# Altium schematic symbol library Robsense_Schlib.SchLib: 34 symbols
Pins are listed as number, name and electrical type; pins without a type are passive.

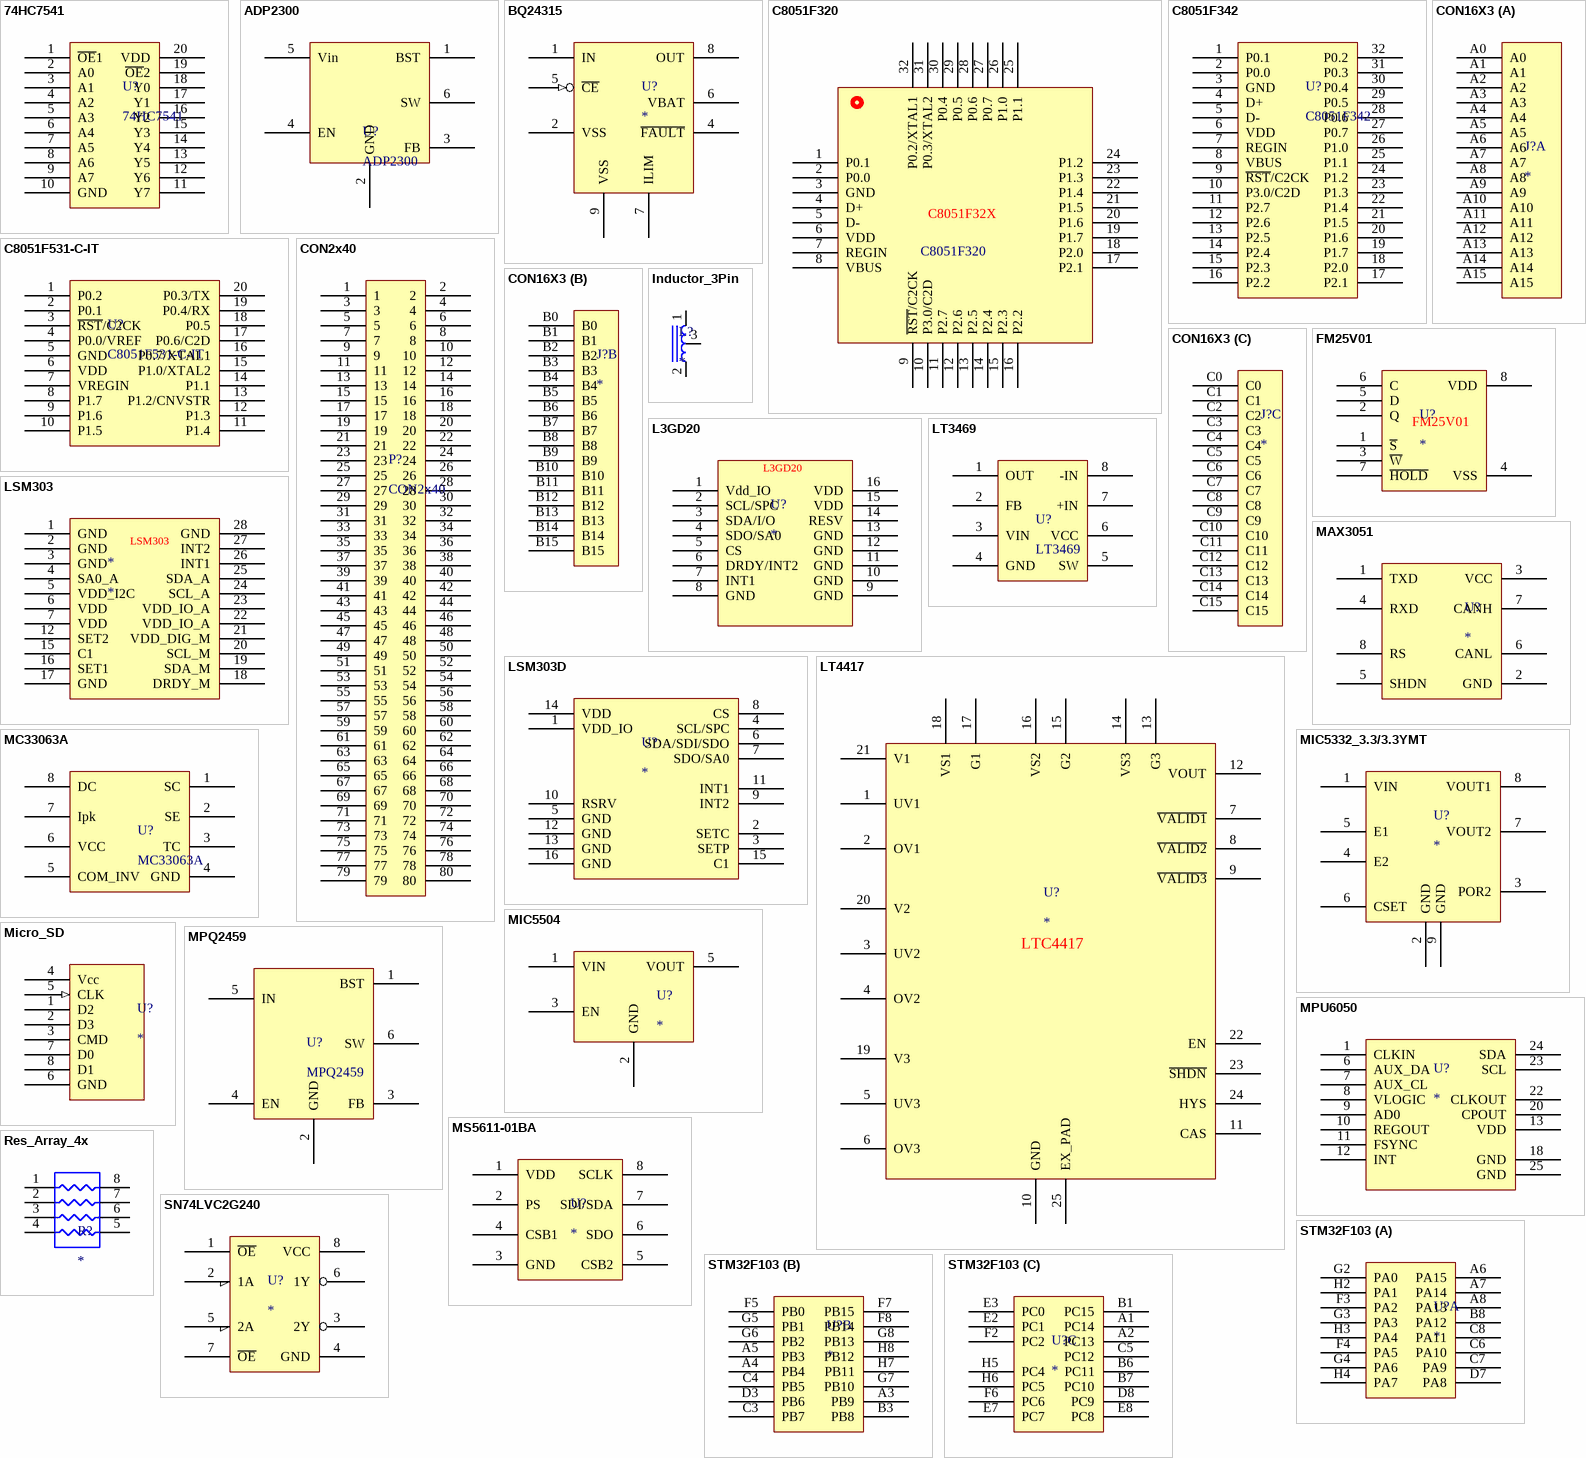
[diagram p0: symbols 74HC7541 to STM32F103]

## 74HC7541
designator U?
footprint TSSOP20_N (Footprint not found)
pins: 1 ~{OE}1, 2 A0, 3 A1, 4 A2, 5 A3, 6 A4, 7 A5, 8 A6, 9 A7, 10 GND, 11 Y7, 12 Y6, 13 Y5, 14 Y4, 15 Y3, 16 Y2, 17 Y1, 18 Y0, 19 ~{OE}2, 20 VDD

## ADP2300
designator U?
footprint TSOT6
pins: 1 BST, 2 GND, 3 FB, 4 EN, 5 Vin, 6 SW

## BQ24315
designator U?
pins: 1 IN, 2 VSS, 4 ~{FAULT}, 5 ~{CE} (in), 6 VBAT, 7 ILIM, 8 OUT, 9 VSS

## C8051F320
designator ?
footprint LQFP32_L (Footprint not found)
footprint LQFP32_M (Footprint not found)
pins: 1 P0.1, 2 P0.0, 3 GND, 4 D+, 5 D-, 6 VDD, 7 REGIN, 8 VBUS, 9 ~{RST}/C2CK, 10 P3.0/C2D, 11 P2.7, 12 P2.6, 13 P2.5, 14 P2.4, 15 P2.3, 16 P2.2, 17 P2.1, 18 P2.0, 19 P1.7, 20 P1.6, 21 P1.5, 22 P1.4, 23 P1.3, 24 P1.2, 25 P1.1, 26 P1.0, 27 P0.7, 28 P0.6, 29 P0.5, 30 P0.4, 31 P0.3/XTAL2, 32 P0.2/XTAL1
text: C8051F32X

## C8051F342
designator U?
footprint LQFP32
pins: 1 P0.1, 2 P0.0, 3 GND, 4 D+, 5 D-, 6 VDD, 7 REGIN, 8 VBUS, 9 ~{RST}/C2CK, 10 P3.0/C2D, 11 P2.7, 12 P2.6, 13 P2.5, 14 P2.4, 15 P2.3, 16 P2.2, 17 P2.1, 18 P2.0, 19 P1.7, 20 P1.6, 21 P1.5, 22 P1.4, 23 P1.3, 24 P1.2, 25 P1.1, 26 P1.0, 27 P0.7, 28 P0.6, 29 P0.5, 30 P0.4, 31 P0.3, 32 P0.2

## C8051F531-C-IT
designator U?
footprint TSSOP20_N (Footprint not found)
pins: 1 P0.2, 2 P0.1, 3 ~{RST}/C2CK, 4 P0.0/VREF, 5 GND, 6 VDD, 7 VREGIN, 8 P1.7, 9 P1.6, 10 P1.5, 11 P1.4, 12 P1.3, 13 P1.2/CNVSTR, 14 P1.1, 15 P1.0/XTAL2, 16 P0.7/XTAL1, 17 P0.6/C2D, 18 P0.5, 19 P0.4/RX, 20 P0.3/TX

## CON2x40
designator P?
footprint Con2x40_1p27
pins: 1, 2, 3, 4, 5, 6, 7, 8, 9, 10, 11, 12, 13, 14, 15, 16, 17, 18, 19, 20, 21, 22, 23, 24, 25, 26, 27, 28, 29, 30, 31, 32, 33, 34, 35, 36, 37, 38, 39, 40, 41, 42, 43, 44, 45, 46, 47, 48, 49, 50, 51, 52, 53, 54, 55, 56, 57, 58, 59, 60, 61, 62, 63, 64, 65, 66, 67, 68, 69, 70, 71, 72, 73, 74, 75, 76, 77, 78, 79, 80

## CON16X3
designator J?
part A pins: A0, A1, A2, A3, A4, A5, A6, A7, A8, A9, A10, A11, A12, A13, A14, A15
part B pins: B0, B1, B2, B3, B4, B5, B6, B7, B8, B9, B10, B11, B12, B13, B14, B15
part C pins: C0, C1, C2, C3, C4, C5, C6, C7, C8, C9, C10, C11, C12, C13, C14, C15

## FM25V01
designator U?
pins: 1 ~{S}, 2 Q, 3 ~{W}, 4 VSS, 5 D, 6 C, 7 ~{HOLD}, 8 VDD

## Inductor_3Pin
designator L?
footprint INDUCTOR_3PIN
pins: 1, 2, 3

## L3GD20
designator U?
pins: 1 Vdd_IO, 2 SCL/SPC, 3 SDA/I/O, 4 SDO/SA0, 5 CS, 6 DRDY/INT2, 7 INT1, 8 GND, 9 GND, 10 GND, 11 GND, 12 GND, 13 GND, 14 RESV, 15 VDD, 16 VDD

## LSM303
designator *
pins: 1 GND, 2 GND, 3 GND, 4 SA0_A, 5 VDD_I2C, 6 VDD, 7 VDD, 12 SET2, 15 C1, 16 SET1, 17 GND, 18 DRDY_M, 19 SDA_M, 20 SCL_M, 21 VDD_DIG_M, 22 VDD_IO_A, 23 VDD_IO_A, 24 SCL_A, 25 SDA_A, 26 INT1, 27 INT2, 28 GND

## LSM303D
designator U?
pins: 1 VDD_IO, 2 SETC, 3 SETP, 4 SCL/SPC, 5 GND, 6 SDA/SDI/SDO, 7 SDO/SA0, 8 CS, 9 INT2, 10 RSRV, 11 INT1, 12 GND, 13 GND, 14 VDD, 15 C1, 16 GND

## LT3469
designator U?
pins: 1 OUT, 2 FB, 3 VIN, 4 GND, 5 SW, 6 VCC, 7 +IN, 8 -IN

## LT4417
designator U?
pins: 1 UV1, 2 OV1, 3 UV2, 4 OV2, 5 UV3, 6 OV3, 7 ~{VALID1}, 8 ~{VALID2}, 9 ~{VALID3}, 10 GND, 11 CAS, 12 VOUT, 13 G3, 14 VS3, 15 G2, 16 VS2, 17 G1, 18 VS1, 19 V3, 20 V2, 21 V1, 22 EN, 23 ~{SHDN}, 24 HYS, 25 EX_PAD
text: LTC4417

## MAX3051
designator U?
pins: 1 TXD, 2 GND, 3 VCC, 4 RXD, 5 SHDN, 6 CANL, 7 CANH, 8 RS

## MC33063A
designator U?
footprint SOIC8 (SOIC, 8-Leads, Body 4.90x3.90mm, Pitch 1.27mm, IPC Medium Density)
pins: 1 SC, 2 SE, 3 TC, 4 GND, 5 COM_INV, 6 VCC, 7 Ipk, 8 DC

## MIC5332_3.3/3.3YMT
designator U?
pins: 1 VIN, 2 GND, 3 POR2, 4 E2, 5 E1, 6 CSET, 7 VOUT2, 8 VOUT1, 9 GND

## MIC5504
designator U?
footprint SOT23-5 (SOT23, 5-Leads, Body 2.90x2.80mm, Pitch 0.95mm, IPC Medium Density)
pins: 1 VIN, 2 GND, 3 EN, 5 VOUT

## Micro_SD
designator U?
Micro_SD
pins: 1 D2, 2 D3, 3 CMD, 4 Vcc, 5 CLK (in), 6 GND, 7 D0, 8 D1

## MPQ2459
designator U?
footprint SOT23-6_M (Footprint not found)
pins: 1 BST, 2 GND, 3 FB, 4 EN, 5 IN, 6 SW

## MPU6050
designator U?
MPU6000
footprint QFN24 (QFN, 24-Leads, Body 4.00x4.00mm, Pitch 0.50mm, Thermal Pad 2.60x2.70mm, IPC Medium Density)
pins: 1 CLKIN, 6 AUX_DA, 7 AUX_CL, 8 VLOGIC, 9 AD0, 10 REGOUT, 11 FSYNC, 12 INT, 13 VDD, 18 GND, 20 CPOUT, 22 CLKOUT, 23 SCL, 24 SDA, 25 GND

## MS5611-01BA
designator U?
MS5611-01BA
footprint QFN127P600-8N
pins: 1 VDD, 2 PS, 3 GND, 4 CSB1, 5 CSB2, 6 SDO, 7 SDI/SDA, 8 SCLK

## Res_Array_4x
designator R?
Res_Array_x4
footprint RES_ARRAY_4X_1 (SOJ, 8-Leads, Body 2.00x1.00mm, Pitch 0.50mm, IPC Low Density)
pins: 1, 2, 3, 4, 5, 6, 7, 8

## SN74LVC2G240
designator U?
pins: 1 ~{OE}, 2 1A, 3 2Y, 4 GND, 5 2A, 6 1Y, 7 ~{OE}, 8 VCC

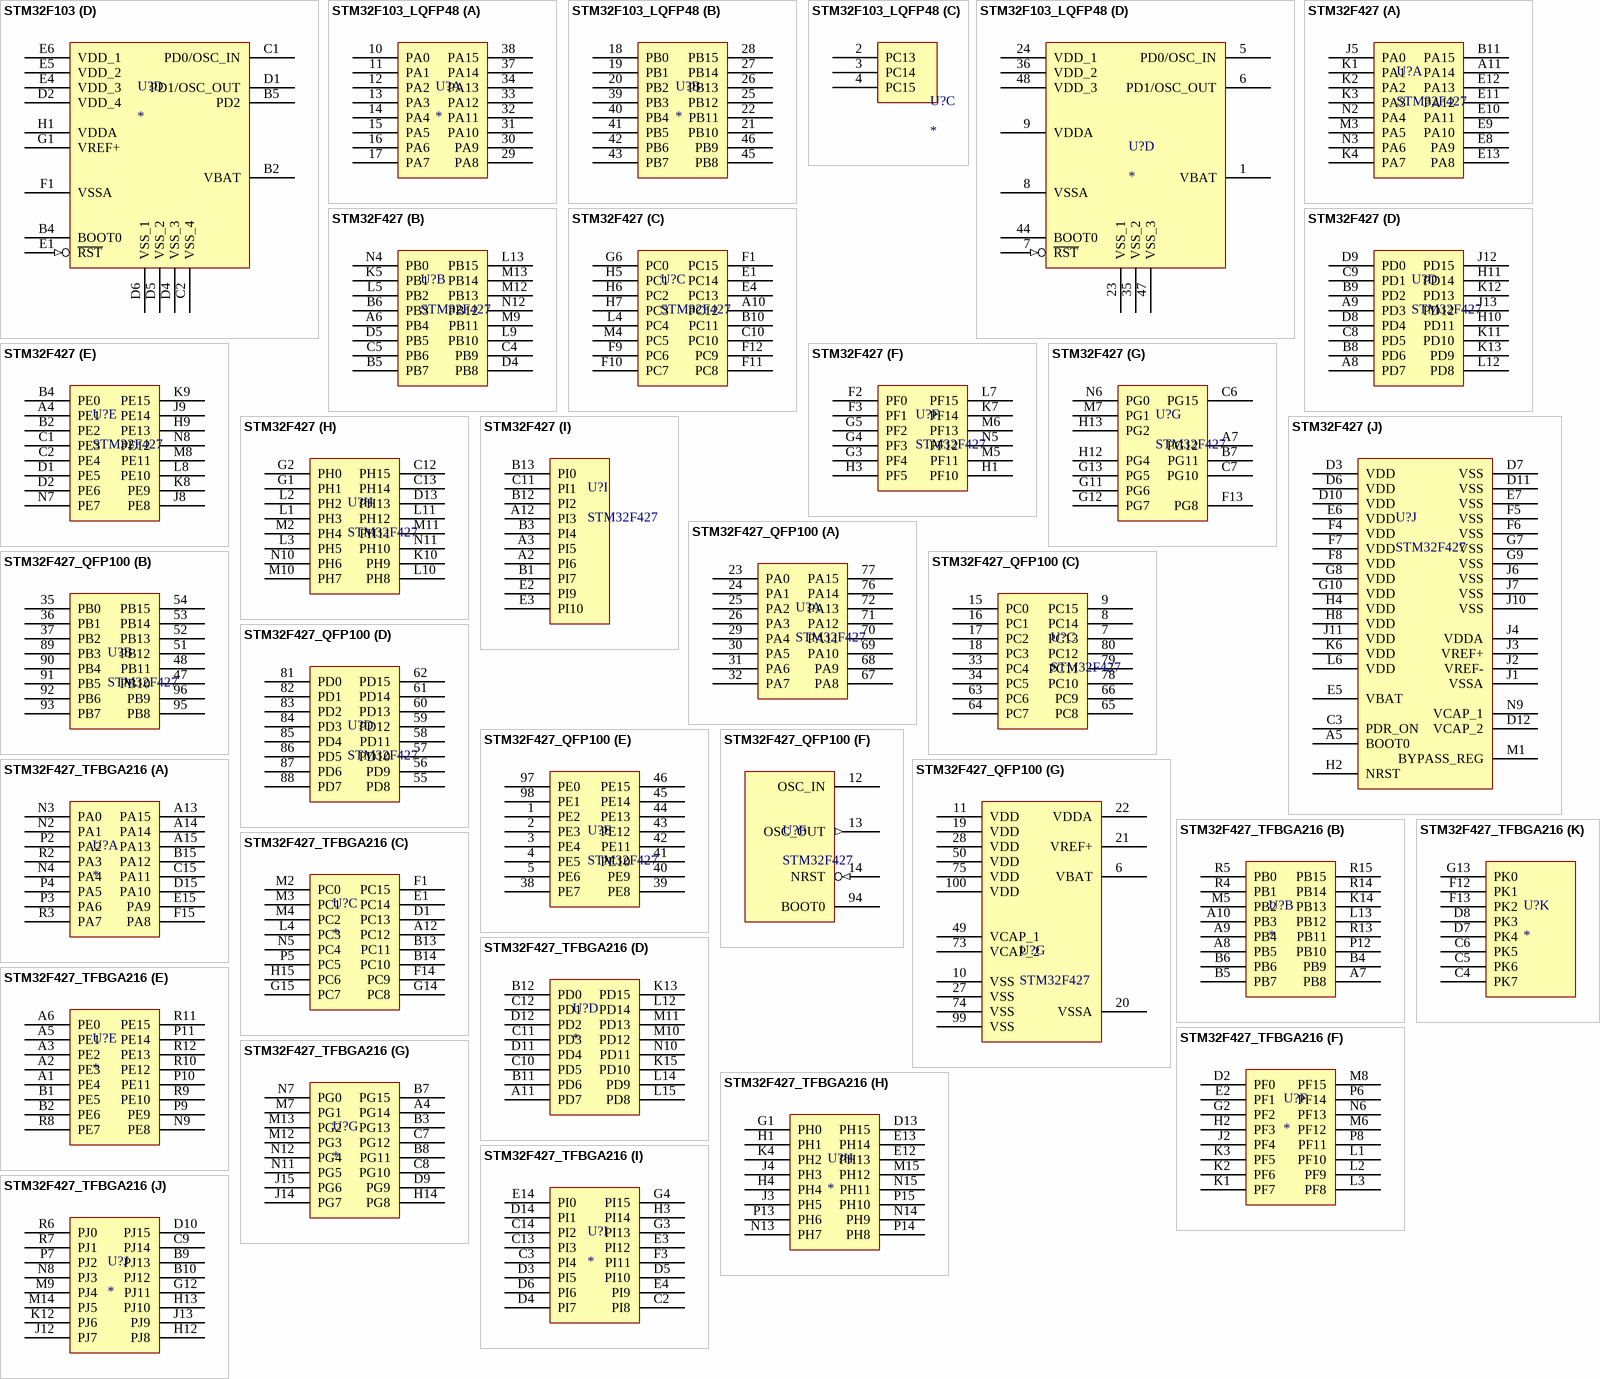
[diagram p1: symbols STM32F103 to STM32F427_TFBGA216]

## STM32F103
designator U?
part A pins: A6 PA15, A7 PA14, A8 PA13, B8 PA12, C6 PA10, C7 PA9, C8 PA11, D7 PA8, F3 PA2, F4 PA5, G2 PA0, G3 PA3, G4 PA6, H2 PA1, H3 PA4, H4 PA7
part B pins: A3 PB9, A4 PB4, A5 PB3, B3 PB8, C3 PB7, C4 PB5, D3 PB6, F5 PB0, F7 PB15, F8 PB14, G5 PB1, G6 PB2, G7 PB10, G8 PB13, H7 PB11, H8 PB12
part C pins: A1 PC14, A2 PC13, B1 PC15, B6 PC11, B7 PC10, C5 PC12, D8 PC9, E2 PC1, E3 PC0, E7 PC7, E8 PC8, F2 PC2, F6 PC6, H5 PC4, H6 PC5
part D pins: B2 VBAT, B4 BOOT0, B5 PD2, C1 PD0/OSC_IN, C2 VSS_4, D1 PD1/OSC_OUT, D2 VDD_4, D4 VSS_3, D5 VSS_2, D6 VSS_1, E1 ~{RST} (in), E4 VDD_3, E5 VDD_2, E6 VDD_1, F1 VSSA, G1 VREF+, H1 VDDA

## STM32F103_LQFP48
designator U?
footprint LQFP48 (TSQFP, 48-Leads, Body 7.00x7.00mm, Pitch 0.50mm, IPC Medium Density)
part A pins: 10 PA0, 11 PA1, 12 PA2, 13 PA3, 14 PA4, 15 PA5, 16 PA6, 17 PA7, 29 PA8, 30 PA9, 31 PA10, 32 PA11, 33 PA12, 34 PA13, 37 PA14, 38 PA15
part B pins: 18 PB0, 19 PB1, 20 PB2, 21 PB10, 22 PB11, 25 PB12, 26 PB13, 27 PB14, 28 PB15, 39 PB3, 40 PB4, 41 PB5, 42 PB6, 43 PB7, 45 PB8, 46 PB9
part C pins: 2 PC13, 3 PC14, 4 PC15
part D pins: 1 VBAT, 5 PD0/OSC_IN, 6 PD1/OSC_OUT, 7 ~{RST} (in), 8 VSSA, 9 VDDA, 23 VSS_1, 24 VDD_1, 35 VSS_2, 36 VDD_2, 44 BOOT0, 47 VSS_3, 48 VDD_3

## STM32F427
designator U?
part A pins: A11 PA14, B11 PA15, E8 PA9, E9 PA10, E10 PA11, E11 PA12, E12 PA13, E13 PA8, J5 PA0, K1 PA1, K2 PA2, K3 PA3, K4 PA7, M3 PA5, N2 PA4, N3 PA6
part B pins: A6 PB4, B5 PB7, B6 PB3, C4 PB9, C5 PB6, D4 PB8, D5 PB5, K5 PB1, L5 PB2, L9 PB10, L13 PB15, M9 PB11, M12 PB13, M13 PB14, N4 PB0, N12 PB12
part C pins: A10 PC12, B10 PC11, C10 PC10, E1 PC14, E4 PC13, F1 PC15, F9 PC6, F10 PC7, F11 PC8, F12 PC9, G6 PC0, H5 PC1, H6 PC2, H7 PC3, L4 PC4, M4 PC5
part D pins: A8 PD7, A9 PD3, B8 PD6, B9 PD2, C8 PD5, C9 PD1, D8 PD4, D9 PD0, H10 PD11, H11 PD14, J12 PD15, J13 PD12, K11 PD10, K12 PD13, K13 PD9, L12 PD8
part E pins: A4 PE1, B2 PE2, B4 PE0, C1 PE3, C2 PE4, D1 PE5, D2 PE6, H9 PE13, J8 PE8, J9 PE14, K8 PE9, K9 PE15, L8 PE10, M8 PE11, N7 PE7, N8 PE12
part F pins: F2 PF0, F3 PF1, G3 PF4, G4 PF3, G5 PF2, H1 PF10, H3 PF5, K7 PF14, L7 PF15, M5 PF11, M6 PF13, N5 PF12
part G pins: A7 PG12, B7 PG11, C6 PG15, C7 PG10, F13 PG8, G11 PG6, G12 PG7, G13 PG5, H12 PG4, H13 PG2, M7 PG1, N6 PG0
part H pins: C12 PH15, C13 PH14, D13 PH13, G1 PH1, G2 PH0, K10 PH9, L1 PH3, L2 PH2, L3 PH5, L10 PH8, L11 PH12, M2 PH4, M10 PH7, M11 PH11, N10 PH6, N11 PH10
part I pins: A2 PI6, A3 PI5, A12 PI3, B1 PI7, B3 PI4, B12 PI2, B13 PI0, C11 PI1, E2 PI9, E3 PI10
part J pins: A5 BOOT0, C3 PDR_ON, D3 VDD, D6 VDD, D7 VSS, D10 VDD, D11 VSS, D12 VCAP_2, E5 VBAT, E6 VDD, E7 VSS, F4 VDD, F5 VSS, F6 VSS, F7 VDD, F8 VDD, G7 VSS, G8 VDD, G9 VSS, G10 VDD, H2 NRST, H4 VDD, H8 VDD, J1 VSSA, J2 VREF-, J3 VREF+, J4 VDDA, J6 VSS, J7 VSS, J10 VSS, J11 VDD, K6 VDD, L6 VDD, M1 BYPASS_REG, N9 VCAP_1

## STM32F427_QFP100
designator U?, comment STM32F427
footprint LQFP100 (TSQFP, 100-Leads, Body 14.00x14.00mm, Pitch 0.50mm, IPC Medium Density)
part A pins: 23 PA0, 24 PA1, 25 PA2, 26 PA3, 29 PA4, 30 PA5, 31 PA6, 32 PA7, 67 PA8, 68 PA9, 69 PA10, 70 PA11, 71 PA12, 72 PA13, 76 PA14, 77 PA15
part B pins: 35 PB0, 36 PB1, 37 PB2, 47 PB10, 48 PB11, 51 PB12, 52 PB13, 53 PB14, 54 PB15, 89 PB3, 90 PB4, 91 PB5, 92 PB6, 93 PB7, 95 PB8, 96 PB9
part C pins: 7 PC13, 8 PC14, 9 PC15, 15 PC0, 16 PC1, 17 PC2, 18 PC3, 33 PC4, 34 PC5, 63 PC6, 64 PC7, 65 PC8, 66 PC9, 78 PC10, 79 PC11, 80 PC12
part D pins: 55 PD8, 56 PD9, 57 PD10, 58 PD11, 59 PD12, 60 PD13, 61 PD14, 62 PD15, 81 PD0, 82 PD1, 83 PD2, 84 PD3, 85 PD4, 86 PD5, 87 PD6, 88 PD7
part E pins: 1 PE2, 2 PE3, 3 PE4, 4 PE5, 5 PE6, 38 PE7, 39 PE8, 40 PE9, 41 PE10, 42 PE11, 43 PE12, 44 PE13, 45 PE14, 46 PE15, 97 PE0, 98 PE1
part F pins: 12 OSC_IN, 13 OSC_OUT (out), 14 NRST (in), 94 BOOT0
part G pins: 6 VBAT, 10 VSS, 11 VDD, 19 VDD, 20 VSSA, 21 VREF+, 22 VDDA, 27 VSS, 28 VDD, 49 VCAP_1, 50 VDD, 73 VCAP_2, 74 VSS, 75 VDD, 99 VSS, 100 VDD

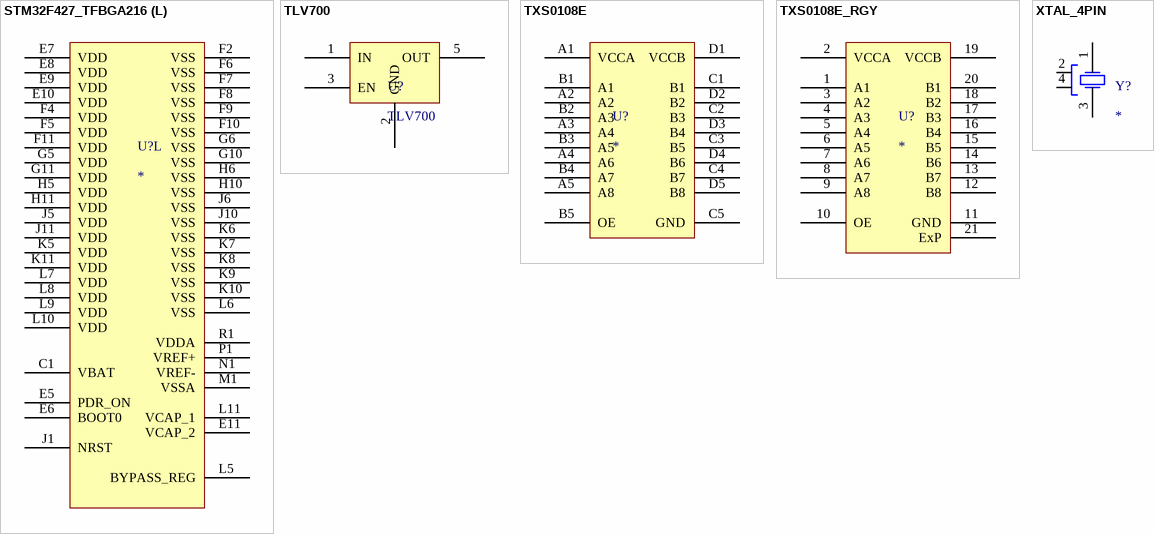
[diagram p2: symbols STM32F427_TFBGA216 to XTAL_4PIN]

## STM32F427_TFBGA216
designator U?
footprint TFBGA216 (BGA, 225-Leads, Body 13.00x13.00mmx1.00mm, Pitch 0.80mm)
part A pins: A13 PA15, A14 PA14, A15 PA13, B15 PA12, C15 PA11, D15 PA10, E15 PA9, F15 PA8, N2 PA1, N3 PA0, N4 PA4, P2 PA2, P3 PA6, P4 PA5, R2 PA3, R3 PA7
part B pins: A7 PB8, A8 PB5, A9 PB4, A10 PB3, B4 PB9, B5 PB7, B6 PB6, K14 PB13, L13 PB12, M5 PB2, P12 PB10, R4 PB1, R5 PB0, R13 PB11, R14 PB14, R15 PB15
part C pins: A12 PC12, B13 PC11, B14 PC10, D1 PC13, E1 PC14, F1 PC15, F14 PC9, G14 PC8, G15 PC7, H15 PC6, L4 PC3, M2 PC0, M3 PC1, M4 PC2, N5 PC4, P5 PC5
part D pins: A11 PD7, B11 PD6, B12 PD0, C10 PD5, C11 PD3, C12 PD1, D11 PD4, D12 PD2, K13 PD15, K15 PD10, L12 PD14, L14 PD9, L15 PD8, M10 PD12, M11 PD13, N10 PD11
part E pins: A1 PE4, A2 PE3, A3 PE2, A5 PE1, A6 PE0, B1 PE5, B2 PE6, N9 PE8, P9 PE9, P10 PE11, P11 PE14, R8 PE7, R9 PE10, R10 PE12, R11 PE15, R12 PE13
part F pins: D2 PF0, E2 PF1, G2 PF2, H2 PF3, J2 PF4, K1 PF7, K2 PF6, K3 PF5, L1 PF10, L2 PF9, L3 PF8, M6 PF12, M8 PF15, N6 PF13, P6 PF14, P8 PF11
part G pins: A4 PG14, B3 PG13, B7 PG15, B8 PG11, C7 PG12, C8 PG10, D9 PG9, H14 PG8, J14 PG7, J15 PG6, M7 PG1, M12 PG3, M13 PG2, N7 PG0, N11 PG5, N12 PG4
part H pins: D13 PH15, E12 PH13, E13 PH14, G1 PH0, H1 PH1, H4 PH4, J3 PH5, J4 PH3, K4 PH2, M15 PH12, N13 PH7, N14 PH9, N15 PH11, P13 PH6, P14 PH8, P15 PH10
part I pins: C2 PI8, C3 PI4, C13 PI3, C14 PI2, D3 PI5, D4 PI7, D5 PI10, D6 PI6, D14 PI1, E3 PI12, E4 PI9, E14 PI0, F3 PI11, G3 PI13, G4 PI15, H3 PI14
part J pins: B9 PJ13, B10 PJ12, C9 PJ14, D10 PJ15, G12 PJ11, H12 PJ8, H13 PJ10, J12 PJ7, J13 PJ9, K12 PJ6, M9 PJ4, M14 PJ5, N8 PJ3, P7 PJ2, R6 PJ0, R7 PJ1
part K pins: C4 PK7, C5 PK6, C6 PK5, D7 PK4, D8 PK3, F12 PK1, F13 PK2, G13 PK0
part L pins: C1 VBAT, E5 PDR_ON, E6 BOOT0, E7 VDD, E8 VDD, E9 VDD, E10 VDD, E11 VCAP_2, F2 VSS, F4 VDD, F5 VDD, F6 VSS, F7 VSS, F8 VSS, F9 VSS, F10 VSS, F11 VDD, G5 VDD, G6 VSS, G10 VSS, G11 VDD, H5 VDD, H6 VSS, H10 VSS, H11 VDD, J1 NRST, J5 VDD, J6 VSS, J10 VSS, J11 VDD, K5 VDD, K6 VSS, K7 VSS, K8 VSS, K9 VSS, K10 VSS, K11 VDD, L5 BYPASS_REG, L6 VSS, L7 VDD, L8 VDD, L9 VDD, L10 VDD, L11 VCAP_1, M1 VSSA, N1 VREF-, P1 VREF+, R1 VDDA

## TLV700
designator U?
footprint SC-70
pins: 1 IN, 2 GND, 3 EN, 5 OUT

## TXS0108E
designator U?
footprint RGY (QFN, 20-Leads, Body 4.50x3.50mm, Pitch 0.50mm/1.50mm, Thermal Pad 3.03x2.03mm, IPC Medium Density)
pins: A1 VCCA, A2, A3 A4, A4 A6, A5 A8, B1 A1, B2 A3, B3 A5, B4 A7, B5 OE, C1 B1, C2 B3, C3 B5, C4 B7, C5 GND, D1 VCCB, D2 B2, D3 B4, D4 B6, D5 B8

## TXS0108E_RGY
designator U?
footprint RGY (QFN, 20-Leads, Body 4.50x3.50mm, Pitch 0.50mm/1.50mm, Thermal Pad 3.03x2.03mm, IPC Medium Density)
pins: 1 A1, 2 VCCA, 3 A2, 4 A3, 5 A4, 6 A5, 7 A6, 8 A7, 9 A8, 10 OE, 11 GND, 12 B8, 13 B7, 14 B6, 15 B5, 16 B4, 17 B3, 18 B2, 19 VCCB, 20 B1, 21 ExP

## XTAL_4PIN
designator Y?
NX3225SA
footprint XTAL3225
pins: 1, 2, 3, 4